# Altium schematic symbol library C-OBD-II-16M.SchLib: 1 symbol
Pins are listed as number, name and electrical type; pins without a type are passive.

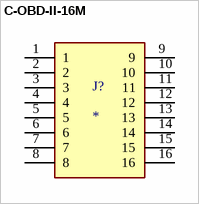
[diagram p0: symbol C-OBD-II-16M]

## C-OBD-II-16M
designator J?
OBD II 16pin 90 Degree Angle Male Plug Connector; MF: Comtech Electronic Co., LTD; MP: C-OBD-II-16M; SnapEDA_Link: https://www.snapeda.com/parts/C-OBD-II-16M/Comtech+Electronic+Co.%252C+LTD/view-part/?ref=snap; Package: None; Value: *; Check_prices: https://www.snapeda.com/parts/C-OBD-II-16M/Comtech+Electronic+Co.%252C+LTD/view-part/?ref=eda
footprint COMTECH_C-OBD-II-16M
pins: 1, 2, 3, 4, 5, 6, 7, 8, 9, 10, 11, 12, 13, 14, 15, 16